# Altium footprint library HDRRAF32W64P254_2X16_4064X1260X600B.PcbLib: 1 footprints
Each footprint in its own frame and in the unit in brackets; x right, y up, seen from the top. Pads: shape width x height; smd on the part's side, far side on the other; paste and mask are expansions set on the pad; w line width, h text height; cw(c..) or ccw(c..) is an arc to the next point about the centre after c.
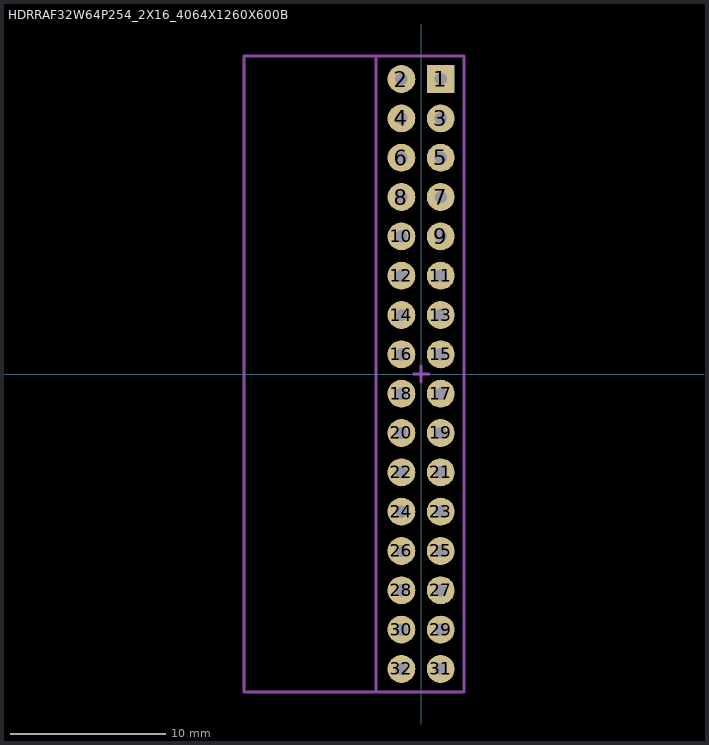
[diagram p0: the footprint, top view; thin cyan lines are the x and y axes]

## HDRRAF32W64P254_2X16_4064X1260X600B [mm] "Header Right Angle 2x16 Female"
height 6
pads (32):
  rect 1.8x1.8 hole 0.8: 1(1.27,19.05)
  round 1.8 hole 0.8: 2(-1.27,19.05) 3(1.27,16.51) 4(-1.27,16.51) 5(1.27,13.97) 6(-1.27,13.97) 7(1.27,11.43) 8(-1.27,11.43)
  round 1.8 hole 0.8 unplated: 9(1.27,8.89) 10(-1.27,8.89) 11(1.27,6.35) 12(-1.27,6.35) 13(1.27,3.81) 14(-1.27,3.81) 15(1.27,1.27) 16(-1.27,1.27) 17(1.27,-1.27) 18(-1.27,-1.27) 19(1.27,-3.81) 20(-1.27,-3.81) 21(1.27,-6.35) 22(-1.27,-6.35) 23(1.27,-8.89) 24(-1.27,-8.89) 25(1.27,-11.43) 26(-1.27,-11.43) 27(1.27,-13.97) 28(-1.27,-13.97) 29(1.27,-16.51) 30(-1.27,-16.51) 31(1.27,-19.05) 32(-1.27,-19.05)
Mechanical 13:
  lines w0.2: -2.9,-20.55 -2.9,20.55 ; -11.43,-20.55 -11.43,20.55 2.77,20.55 2.77,-20.55 -11.43,-20.55
Mechanical 15:
  lines w0.2: -0.5,0 0.5,0 ; 0,-0.5 0,0.5 ; -11.43,-20.55 -11.43,20.55 2.77,20.55 2.77,-20.55 -11.43,-20.55
3D body: height 5.02, standoff -2.48, extent -11.309,-20.574 1.467,20.574